# Altium footprint library Smartcar.PcbLib: 8 footprints
Each footprint in its own frame and in the unit in brackets; x right, y up, seen from the top. Pads: shape width x height; smd on the part's side, far side on the other; paste and mask are expansions set on the pad; w line width, h text height; cw(c..) or ccw(c..) is an arc to the next point about the centre after c.
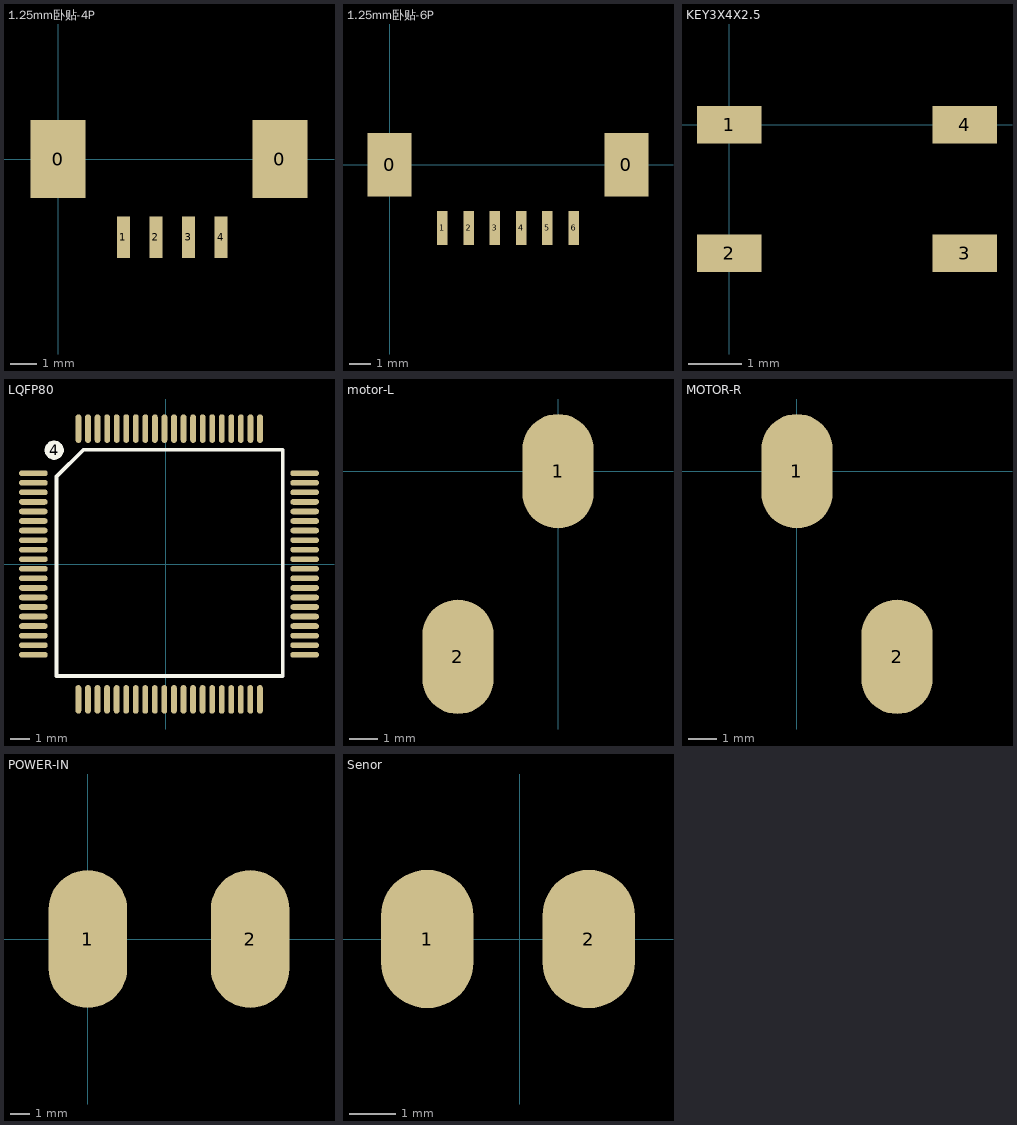
[diagram p0: the footprints below, top view; thin cyan lines are the x and y axes]

## 1.25mm卧贴-4P [mm]
pads (6):
  rect 2.1x3 smd: 0(0,0) 0(8.5,0)
  rect 0.5x1.6 smd: 1(2.5,-3) 2(3.75,-3) 3(5,-3) 4(6.25,-3)
3D body: height 2.3, standoff 0, extent 0,-2.5 8.5,1.25
3D body: height 0.3, standoff 0, extent 2.25,-3 2.75,-2.25
3D body: height 0.3, standoff 0, extent 3.5,-3 4,-2.25
3D body: height 0.3, standoff 0, extent 4.75,-3 5.25,-2.25
3D body: height 0.3, standoff 0, extent 6,-3 6.5,-2.25
3D body: height 0.8, standoff 0, extent -0.25,-0.75 0,0.5
3D body: height 0.8, standoff 0, extent 8.5,-0.75 8.75,0.5

## 1.25mm卧贴-6P [mm]
pads (8):
  rect 2.1x3 smd: 0(0,0) 0(11.25,0)
  rect 0.5x1.6 smd: 1(2.5,-3) 2(3.75,-3) 3(5,-3) 4(6.25,-3) 5(7.5,-3) 6(8.75,-3)
3D body: height 2.3, standoff 0, extent 0,-2.5 11.25,1.25
3D body: height 0.3, standoff 0, extent 2.25,-3 2.75,-2.25
3D body: height 0.3, standoff 0, extent 3.5,-3 4,-2.25
3D body: height 0.3, standoff 0, extent 4.75,-3 5.25,-2.25
3D body: height 0.3, standoff 0, extent 6,-3 6.5,-2.25
3D body: height 0.8, standoff 0, extent -0.25,-0.75 0,0.5
3D body: height 0.8, standoff 0, extent 11.25,-0.75 11.5,0.5
3D body: height 0.3, standoff 0, extent 7.25,-3 7.75,-2.25
3D body: height 0.3, standoff 0, extent 8.5,-3 9,-2.25

## KEY3X4X2.5 [mm]
pads (4):
  rect 1.2x0.7 smd: 1(0,0) 2(0,-2.4) 3(4.4,-2.4) 4(4.4,0)
3D body: height 0.3, standoff 0, extent 4.4,-0.1 4.5,0.1
3D body: height 0.3, standoff 0, extent 4.4,-2.5 4.5,-2.3
3D body: height 0.3, standoff 0, extent -0.1,-2.5 0,-2.3
3D body: height 0.3, standoff 0, extent -0.1,-0.1 0,0.1
3D body: height 2.5, standoff 0, extent 0.8,-1.8 3.6,-0.5
3D body: height 1.8, standoff 0, extent 3.7,-0.4 4.3,0.2
3D body: height 1.8, standoff 0, extent 3.7,-2.6 4.3,-2
3D body: height 1.8, standoff 0, extent 0.1,-2.6 0.7,-2
3D body: height 1.8, standoff 0, extent 0.1,-0.3 0.6,0.2
3D body: height 1.6, standoff 0, extent 0,-2.7 4.4,0.3

## LQFP80 [mm]
pads (81):
  oval 1.5x0.3 smd: 1(-6.934,4.763) 2(-6.934,4.263) 3(-6.934,3.763) 4(-6.934,3.263) 5(-6.934,2.763) 6(-6.934,2.263) 7(-6.934,1.763) 8(-6.934,1.263) 9(-6.934,0.763) 10(-6.934,0.263) 11(-6.934,-0.237) 12(-6.934,-0.737) 13(-6.934,-1.237) 14(-6.934,-1.737) 15(-6.934,-2.237) 16(-6.934,-2.737) 17(-6.934,-3.237) 18(-6.934,-3.737) 19(-6.934,-4.237) 20(-6.934,-4.737) 41(7.266,-4.737) 42(7.266,-4.237) 43(7.266,-3.737) 44(7.266,-3.237) 45(7.266,-2.737) 46(7.266,-2.237) 47(7.266,-1.737) 48(7.266,-1.237) 49(7.266,-0.737) 50(7.266,-0.237) 51(7.266,0.263) 52(7.266,0.763) 53(7.266,1.263) 54(7.266,1.763) 55(7.266,2.263) 56(7.266,2.763) 57(7.266,3.263) 58(7.266,3.763) 59(7.266,4.263) 60(7.266,4.763)
  round 1.016 on Top Overlay: 4(-5.842,5.969)
  oval 0.3x1.5 smd: 21(-4.576,-7.074) 22(-4.076,-7.074) 23(-3.576,-7.074) 24(-3.076,-7.074) 25(-2.576,-7.074) 26(-2.076,-7.074) 27(-1.576,-7.074) 28(-1.076,-7.074) 29(-0.576,-7.074) 30(-0.076,-7.074) 31(0.424,-7.074) 32(0.924,-7.074) 33(1.424,-7.074) 34(1.924,-7.074) 35(2.424,-7.074) 36(2.924,-7.074) 37(3.424,-7.074) 38(3.924,-7.074) 39(4.424,-7.074) 40(4.924,-7.074) 61(4.928,7.099) 62(4.428,7.099) 63(3.928,7.099) 64(3.428,7.099) 65(2.928,7.099) 66(2.428,7.099) 67(1.928,7.099) 68(1.428,7.099) 69(0.928,7.099) 70(0.428,7.099) 71(-0.072,7.099) 72(-0.572,7.099) 73(-1.072,7.099) 74(-1.572,7.099) 75(-2.072,7.099) 76(-2.572,7.099) 77(-3.072,7.099) 78(-3.572,7.099) 79(-4.072,7.099) 80(-4.572,7.099)
Top Overlay:
  lines w0.2: -5.715,-5.855 -5.715,4.585 -4.305,5.994 6.121,5.994 6.121,-5.855 -5.715,-5.855
3D body "LQFP-80.step": height 1.73, standoff 0.09, extent -6.936,-7.087 7.264,7.113

## motor-L [mm]
pads (2):
  oval 2.5x4 smd: 1(0,0) 2(-3.5,-6.5)

## MOTOR-R [mm]
pads (2):
  oval 2.5x4 smd: 1(0,0) 2(3.5,-6.5)

## POWER-IN [mm]
pads (2):
  oval 4x7 smd: 1(0,0) 2(8.25,0)

## Senor [mm]
pads (2):
  oval 2x3 smd: 1(-2,0) 2(1.5,0)